# Altium schematic symbol library IC74HC595.SchLib: 1 symbol
Pins are listed as number, name and electrical type; pins without a type are passive.

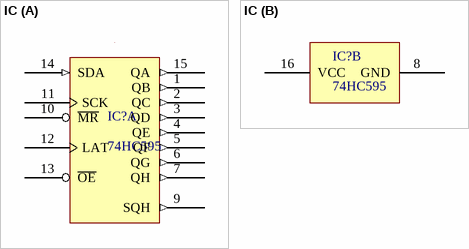
[diagram p0: symbol IC]

## IC
designator IC?, comment 74HC595
The 74HC595 is an high speed CMOS device.
footprint PCBComponent_1
part A pins: 1 QB (out), 2 QC (out), 3 QD (out), 4 QE (out), 5 QF (out), 6 QG (out), 7 QH (out), 9 SQH (out), 10 ~{MR}, 11 SCK, 12 LAT, 13 ~{OE}, 14 SDA (in), 15 QA (out)
part B pins: 8 GND, 16 VCC